# Altium integrated library Conv-Comp.IntLib: 5 symbols
Pins are listed as number, name and electrical type; pins without a type are passive.

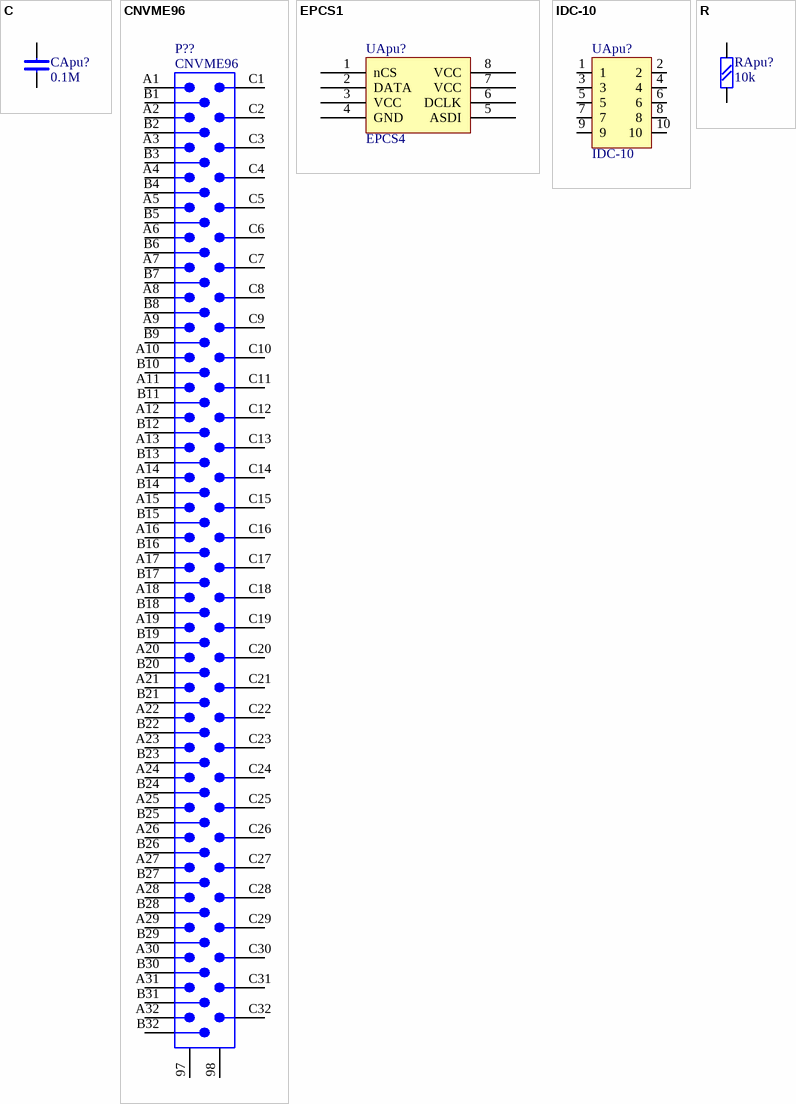
[diagram p0: symbols C to R]

## C
designator CApu?, comment 0.1M
Text Field1: 20; Text Field2: 10
footprint chip0805
footprint chip1206
footprint C2p5
footprint C5p0
pins: 1, 2

## CNVME96
designator P??
96-Pin Connector (3x32 2.54mm grid); Text Field6: Alternate Layout Available; Text Field7: Published 14-Feb-2002
footprint CNVME96
pins: 97, 98, A1, A2, A3, A4, A5, A6, A7, A8, A9, A10, A11, A12, A13, A14, A15, A16, A17, A18, A19, A20, A21, A22, A23, A24, A25, A26, A27, A28, A29, A30, A31, A32, B1, B2, B3, B4, B5, B6, B7, B8, B9, B10, B11, B12, B13, B14, B15, B16, B17, B18, B19, B20, B21, B22, B23, B24, B25, B26, B27, B28, B29, B30, B31, B32, C1, C2, C3, C4, C5, C6, C7, C8, C9, C10, C11, C12, C13, C14, C15, C16, C17, C18, C19, C20, C21, C22, C23, C24, C25, C26, C27, C28, C29, C30, C31, C32
1 alternate drawing of the same symbol

## EPCS1
designator UApu?, comment EPCS4
Serial configuration device for Cyclone (Altera)
footprint SOIC8
footprint 8SO200
pins: 1 nCS, 2 DATA, 3 VCC, 4 GND, 5 ASDI, 6 DCLK, 7 VCC, 8 VCC

## IDC-10
designator UApu?
Text Field1: 40; Text Field2: 60
footprint IDC10
footprint IDC10MR
pins: 1 (io), 2 (io), 3 (io), 4 (io), 5 (io), 6 (io), 7 (io), 8 (io), 9 (io), 10 (io)
2 alternate drawings of the same symbol

## R
designator RApu?, comment 10k
Text Field1: 20; Text Field2: 20
footprint chip0805
footprint chip1206
footprint r7p5
footprint r8p75
pins: 1, 2